# EAGLE library part LTC1850CFWPBF (library LTC1850CF)
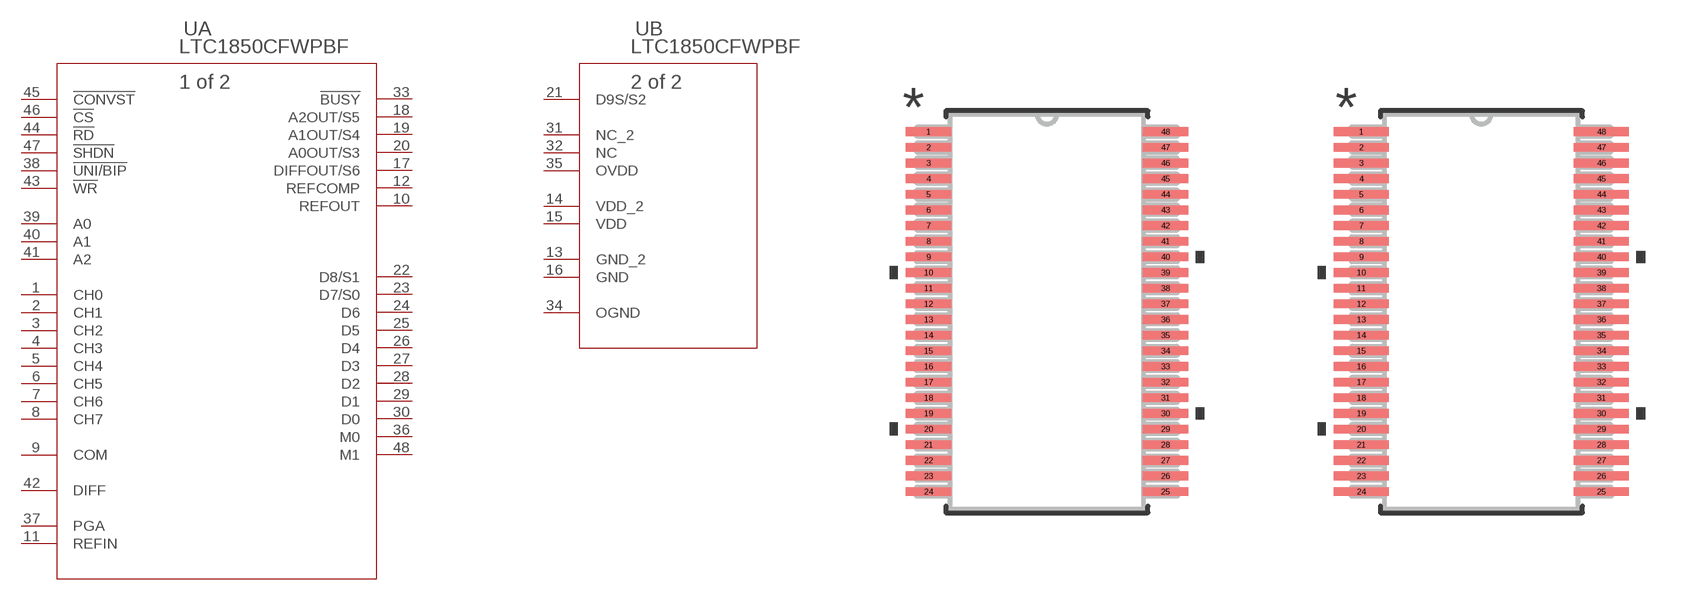
[diagram p0: symbol with the pads of TSSOP-48_FW_LIT; footprints TSSOP-48_FW_LIT, TSSOP-48_FW_LIT-M]

Designator prefix U; gates A=LTC1850CFWPBF B=LTC1850CFWPBF_A

## LTC1850CFWPBF (COPYRIGHT: Copyright (C) 2023 Ultra Librarian. All rights reserved.; MANUFACTURER_PART_NUMBER: LTC1850CFW#PBF; MFR_NAME: Analog Devices Inc)  [TSSOP-48_FW_LIT]
1  A:CH0  in
2  A:CH1  in
3  A:CH2  in
4  A:CH3  in
5  A:CH4  in
6  A:CH5  in
7  A:CH6  in
8  A:CH7  in
9  A:COM  in
10  A:REFOUT  out
11  A:REFIN  in
12  A:REFCOMP  out
13  B:GND_2  pwr
14  B:VDD_2  pwr
15  B:VDD  pwr
16  B:GND  pwr
17  A:DIFFOUT/S6  out
18  A:A2OUT/S5  out
19  A:A1OUT/S4  out
20  A:A0OUT/S3  out
21  B:D9S/S2  out
22  A:D8/S1  out
23  A:D7/S0  out
24  A:D6  out
25  A:D5  out
26  A:D4  out
27  A:D3  out
28  A:D2  out
29  A:D1  out
30  A:D0  out
31  B:NC_2  nc
32  B:NC  nc
33  A:!BUSY  out
34  B:OGND  pwr
35  B:OVDD  pwr
36  A:M0  pas
37  A:PGA  in
38  A:!UNI/BIP  in
39  A:A0  in
40  A:A1  in
41  A:A2  in
42  A:DIFF  in
43  A:!WR  in
44  A:!RD  in
45  A:!CONVST  in
46  A:!CS  in
47  A:!SHDN  in
48  A:M1  pas

## LTC1850CFWPBFTSSOP-48_FW_LIT-M (COPYRIGHT: Copyright (C) 2023 Ultra Librarian. All rights reserved.; MANUFACTURER_PART_NUMBER: LTC1850CFW#PBF; MFR_NAME: Analog Devices Inc)  [TSSOP-48_FW_LIT-M]
Pads as for TSSOP-48_FW_LIT

## LTC1850CFWPBFTSSOP-48_FW_LIT-L (COPYRIGHT: Copyright (C) 2023 Ultra Librarian. All rights reserved.; MANUFACTURER_PART_NUMBER: LTC1850CFW#PBF; MFR_NAME: Analog Devices Inc)  [TSSOP-48_FW_LIT-L]
Pads as for TSSOP-48_FW_LIT

## Footprint TSSOP-48_FW_LIT (pad centres in mm)
smd 1.448 x 0.279: 1 -3.785,5.754; 2 -3.785,5.254; 3 -3.785,4.754; 4 -3.785,4.253; 5 -3.785,3.753; 6 -3.785,3.252; 7 -3.785,2.752; 8 -3.785,2.252; 9 -3.785,1.751; 10 -3.785,1.251; 11 -3.785,0.751; 12 -3.785,0.25; 13 -3.785,-0.25; 14 -3.785,-0.751; 15 -3.785,-1.251; 16 -3.785,-1.751; 17 -3.785,-2.252; 18 -3.785,-2.752; 19 -3.785,-3.252; 20 -3.785,-3.753; 21 -3.785,-4.253; 22 -3.785,-4.754; 23 -3.785,-5.254; 24 -3.785,-5.754; 25 3.785,-5.754; 26 3.785,-5.254; 27 3.785,-4.754; 28 3.785,-4.253; 29 3.785,-3.753; 30 3.785,-3.252; 31 3.785,-2.752; 32 3.785,-2.252; 33 3.785,-1.751; 34 3.785,-1.251; 35 3.785,-0.751; 36 3.785,-0.25; 37 3.785,0.25; 38 3.785,0.751; 39 3.785,1.251; 40 3.785,1.751; 41 3.785,2.252; 42 3.785,2.752; 43 3.785,3.252; 44 3.785,3.753; 45 3.785,4.253; 46 3.785,4.754; 47 3.785,5.254; 48 3.785,5.754

## Footprint TSSOP-48_FW_LIT-M (pad centres in mm)
smd 1.753 x 0.279: 1 -3.835,5.754; 2 -3.835,5.254; 3 -3.835,4.754; 4 -3.835,4.253; 5 -3.835,3.753; 6 -3.835,3.252; 7 -3.835,2.752; 8 -3.835,2.252; 9 -3.835,1.751; 10 -3.835,1.251; 11 -3.835,0.751; 12 -3.835,0.25; 13 -3.835,-0.25; 14 -3.835,-0.751; 15 -3.835,-1.251; 16 -3.835,-1.751; 17 -3.835,-2.252; 18 -3.835,-2.752; 19 -3.835,-3.252; 20 -3.835,-3.753; 21 -3.835,-4.253; 22 -3.835,-4.754; 23 -3.835,-5.254; 24 -3.835,-5.754; 25 3.835,-5.754; 26 3.835,-5.254; 27 3.835,-4.754; 28 3.835,-4.253; 29 3.835,-3.753; 30 3.835,-3.252; 31 3.835,-2.752; 32 3.835,-2.252; 33 3.835,-1.751; 34 3.835,-1.251; 35 3.835,-0.751; 36 3.835,-0.25; 37 3.835,0.25; 38 3.835,0.751; 39 3.835,1.251; 40 3.835,1.751; 41 3.835,2.252; 42 3.835,2.752; 43 3.835,3.252; 44 3.835,3.753; 45 3.835,4.253; 46 3.835,4.754; 47 3.835,5.254; 48 3.835,5.754

## Footprint TSSOP-48_FW_LIT-L (pad centres in mm)
smd 1.143 x 0.229: 1 -3.734,5.754; 2 -3.734,5.254; 3 -3.734,4.754; 4 -3.734,4.253; 5 -3.734,3.753; 6 -3.734,3.252; 7 -3.734,2.752; 8 -3.734,2.252; 9 -3.734,1.751; 10 -3.734,1.251; 11 -3.734,0.751; 12 -3.734,0.25; 13 -3.734,-0.25; 14 -3.734,-0.751; 15 -3.734,-1.251; 16 -3.734,-1.751; 17 -3.734,-2.252; 18 -3.734,-2.752; 19 -3.734,-3.252; 20 -3.734,-3.753; 21 -3.734,-4.253; 22 -3.734,-4.754; 23 -3.734,-5.254; 24 -3.734,-5.754; 25 3.734,-5.754; 26 3.734,-5.254; 27 3.734,-4.754; 28 3.734,-4.253; 29 3.734,-3.753; 30 3.734,-3.252; 31 3.734,-2.752; 32 3.734,-2.252; 33 3.734,-1.751; 34 3.734,-1.251; 35 3.734,-0.751; 36 3.734,-0.25; 37 3.734,0.25; 38 3.734,0.751; 39 3.734,1.251; 40 3.734,1.751; 41 3.734,2.252; 42 3.734,2.752; 43 3.734,3.252; 44 3.734,3.753; 45 3.734,4.253; 46 3.734,4.754; 47 3.734,5.254; 48 3.734,5.754